# Altium footprint library PcbLib1.PcbLib: 2 footprints
Each footprint in its own frame and in the unit in brackets; x right, y up, seen from the top. Pads: shape width x height; smd on the part's side, far side on the other; paste and mask are expansions set on the pad; w line width, h text height; cw(c..) or ccw(c..) is an arc to the next point about the centre after c.
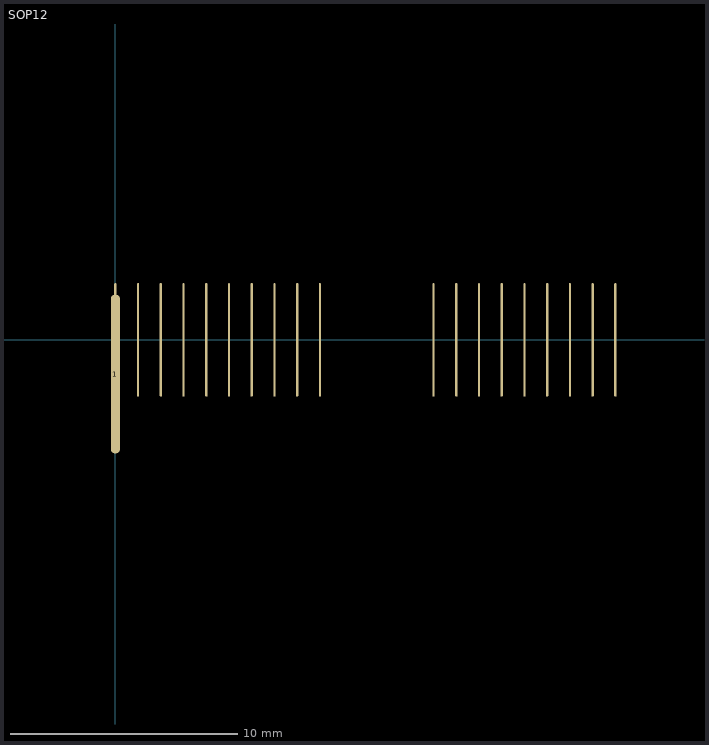
[diagram p0: the footprints below, top view; thin cyan lines are the x and y axes]

## PCBComponent_1 [mm]

## SOP12 [mm]
pads (21):
  oval 0.4x7 smd: 1(0,-1.5)
  oval 0.1x7 on Bottom Solder: 1(13,-1)
  oval 0.1x5 smd: 2(0,0) 2(1,0) 2(5,0) 2(9,0) 2(14,0) 2(18,0) 2(22,0) 3(2,0) 3(6,0) 3(15,0) 3(19,0) 4(3,0) 4(7,0) 4(16,0) 4(20,0) 5(4,0) 5(8,0) 5(17,0) 5(21,0)
Top Solder:
  lines w0.254: -0.5,-5 0,-5.5 0.5,-5 0,-4.5 ; -0.5,-5 0,-4.5 ; -0.5,-5 0,-4.5 ; -0.5,-5 0,-5 ; 0,-5 0.25,-4.75 ; 0,-5 0.25,-4.75 ; 0,-5 0.25,-5.25 ; 0.25,-5.25 -0.25,-5.25 -0.25,-4.75 0.25,-4.75 ; 0.25,-5.25 0.25,-4.75 ; 12.5,-5 13,-5 ; 12.5,-5 13,-4.5 ; 12.5,-5 13,-4.5 ; 12.5,-5 13,-5.5 13.5,-5 13,-4.5 ; 13,-5 13.25,-5.25 ; 13,-5 13.25,-4.75 ; 13,-5 13.25,-4.75 ; 13.25,-5.25 13.25,-4.75 ; 13.25,-5.25 12.75,-5.25 12.75,-4.75 13.25,-4.75
  text "1" at 1,-7 h5